# Altium footprint library ADXL357.PcbLib: 2 footprints
Each footprint in its own frame and in the unit in brackets; x right, y up, seen from the top. Pads: shape width x height; smd on the part's side, far side on the other; paste and mask are expansions set on the pad; w line width, h text height; cw(c..) or ccw(c..) is an arc to the next point about the centre after c.
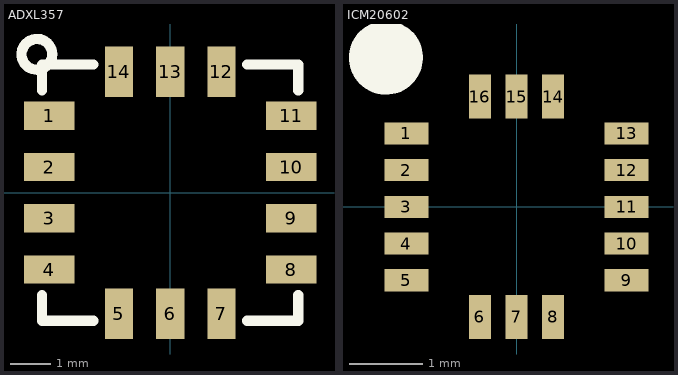
[diagram p0: the footprints below, top view; thin cyan lines are the x and y axes]

## ADXL357 [mm]
pads (14):
  rect 1.25x0.7 smd: 1(-3,1.905) 2(-3,0.635) 3(-3,-0.635) 4(-3,-1.905) 8(3,-1.905) 9(3,-0.635) 10(3,0.635) 11(3,1.905)
  rect 0.7x1.25 smd: 5(-1.27,-3) 6(0,-3) 7(1.27,-3) 12(1.27,3) 13(0,3) 14(-1.27,3)
Top Overlay:
  circle w0.254: c-3.302,3.429 r0.381
  lines w0.254: -3.175,-2.54 -3.175,-3.175 -1.905,-3.175 ; -3.175,2.54 -3.175,3.175 -1.905,3.175 ; 1.905,-3.175 3.175,-3.175 3.175,-2.54 ; 1.905,3.175 3.175,3.175 3.175,3.048 3.175,2.54
3D body: height 2, standoff 0, extent -3,-3 3,3

## ICM20602 [mm]
pads (16):
  rect 0.6x0.3 smd: 1(-1.5,1) 2(-1.5,0.5) 3(-1.5,0) 4(-1.5,-0.5) 5(-1.5,-1) 9(1.5,-1) 10(1.5,-0.5) 11(1.5,0) 12(1.5,0.5) 13(1.5,1)
  rect 0.3x0.6 smd: 6(-0.5,-1.5) 7(0,-1.5) 8(0.5,-1.5) 14(0.5,1.5) 15(0,1.5) 16(-0.5,1.5)
Top Overlay:
  circle w0.5: c-1.778,2.032 r0.254
3D body: height 0.75, standoff 0, extent -1.5,-1.5 1.5,1.5